# EAGLE library part LM2596S-ADJ_NOPB (library LM2596S)
SIMPLE SWITCHER® 4.5V to 40V, 3A Low Component Count Step-Down Regulator Source: Datasheet
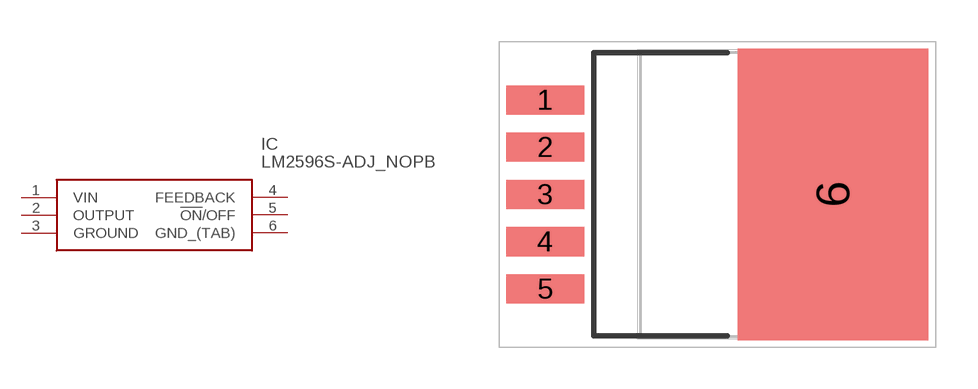
[diagram p0: symbol with the pads of TO170P1435X465-6N; footprint TO170P1435X465-6N]

Designator prefix IC

## LM2596S-ADJ_NOPB (Description: SIMPLE SWITCHER&#174; 4.5V to 40V, 3A Low Component Count Step-Down Regulator; Height: 4.65mm; Manufacturer_Name: Texas Instruments; Manufacturer_Part_Number: LM2596S-ADJ/NOPB; Mouser_Part_Number: 926-LM2596S-ADJ/NOPB; Mouser_Price-Stock: https://www.mouser.com/Search/Refine.aspx?Keyword=926-LM2596S-ADJ%2FNOPB)  [TO170P1435X465-6N]
1  VIN  in
2  OUTPUT  out
3  GROUND
4  FEEDBACK
5  !ON!/OFF
6  GND_(TAB)  pwr

## Footprint TO170P1435X465-6N (pad centres in mm)
KTT0005B
smd 2.8 x 1.05: 1 -6.2,3.4; 2 -6.2,1.7; 3 -6.2,0; 4 -6.2,-1.7; 5 -6.2,-3.4
smd 6.85 x 10.5: 6 4.15,0